# EAGLE library part AK4388AET (library pimoroni-ics)
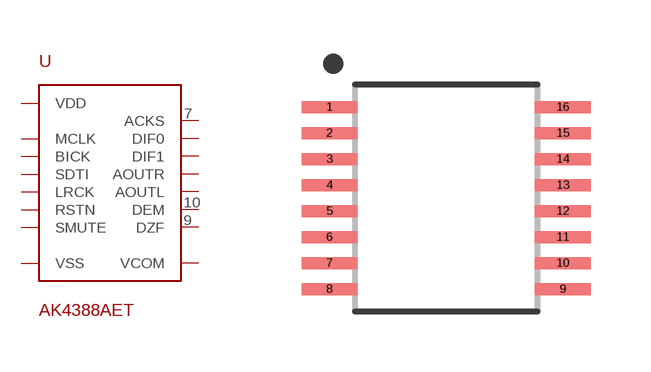
[diagram p89: symbol with the pads of TSSOP-16; footprint TSSOP-16]

Designator prefix -

## AK4388AET  [TSSOP-16]
1  MCLK  in
2  BICK  in
3  SDTI  in
4  LRCK  in
5  RSTN  in
6  SMUTE  in
7  ACKS  in
8  DIF0  in
9  DZF  out
10  DEM  in
11  VDD  pwr
12  VSS  pwr
13  VCOM  pwr
14  AOUTL  out
15  AOUTR  out
16  DIF1  in

## Footprint TSSOP-16 (pad centres in mm)
smd 1.4 x 0.3: 1 -2.918,2.275; 2 -2.918,1.625; 3 -2.918,0.975; 4 -2.918,0.325; 5 -2.918,-0.325; 6 -2.918,-0.975; 7 -2.918,-1.625; 8 -2.918,-2.275; 9 2.918,-2.275; 10 2.918,-1.625; 11 2.918,-0.975; 12 2.918,-0.325; 13 2.918,0.325; 14 2.918,0.975; 15 2.918,1.625; 16 2.918,2.275